# EAGLE library part CONNECTOR_PADS (library skinnerbox_library)
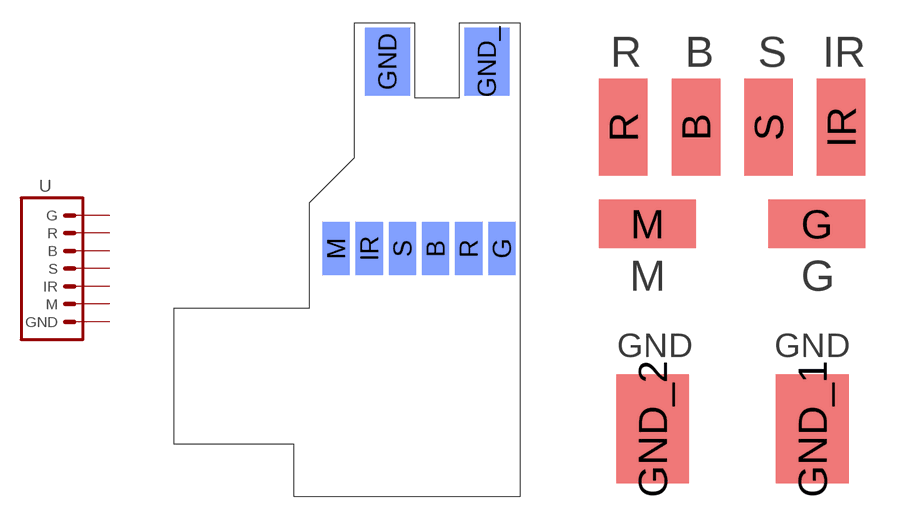
[diagram p1: symbol with the pads of CONNECTOR_PADS; footprints CONNECTOR_PADS, CONNECTOR_ARDUINO_SIDE_PADS]

Designator prefix -

## CONNECTOR_PADS  [CONNECTOR_PADS]
B  B  pas
G  G  pas
GND  GND  pas
GND_  GND  pas
IR  IR  pas
M  M  pas
R  R  pas
S  S  pas

## CONNECTOR_PADSCONNECTOR_ARDUINO_SIDE_PADS  [CONNECTOR_ARDUINO_SIDE_PADS]
B  B  pas
G  G  pas
GND_1  GND  pas
GND_2  GND  pas
IR  IR  pas
M  M  pas
R  R  pas
S  S  pas

## CONNECTOR_PADSHOLES  [CONNECTOR_ARDUINO_SIDE]
B  B  pas
G  G  pas
GND  GND  pas
IR  IR  pas
M  M  pas
R  R  pas
S  S  pas

## Footprint CONNECTOR_PADS (pad centres in mm)
smd 1.8 x 3.5 bottom: B 12.4,11; G 16.8,11; IR 8,11; M 5.8,11; R 14.6,11; S 10.2,11
smd 3 x 4.5 bottom: GND 9.2,23.4; GND_ 15.8,23.4

## Footprint CONNECTOR_ARDUINO_SIDE_PADS (pad centres in mm)
smd 2 x 4: B -1.5,15; IR 4.5,15; R -4.5,15; S 1.5,15
smd 4 x 2: G 3.5,11; M -3.5,11
smd 3 x 4.5: GND_1 3.31,2.54; GND_2 -3.29,2.54

## Footprint CONNECTOR_ARDUINO_SIDE (pad centres in mm)
drill 0.9 pad 1.7: B -1.5,10; G -4,10; IR 1,10; M 6,10; R -6.5,10; S 3.5,10
drill 1.7 pad 3: GND 0,0